# EAGLE library part 6N136 (library ic)
高速光耦,1MBd
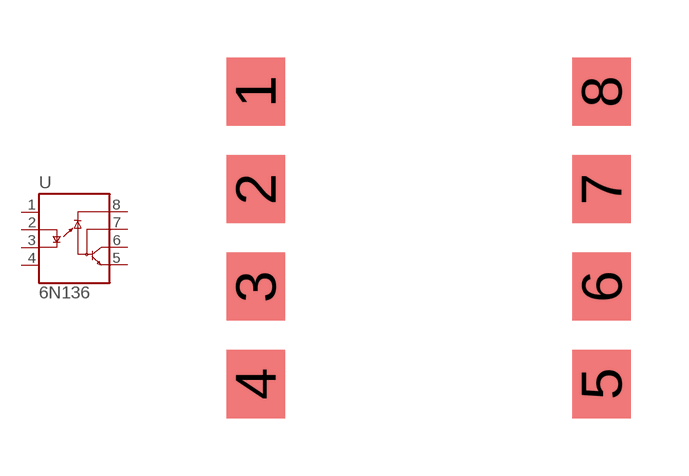
[diagram p4: symbol with the pads of SOP8-900A-2.54A; footprint SOP8-900A-2.54A]

Designator prefix U

## 6N136  [SOP8-900A-2.54A]
1  NC1
2  A
3  C
4  NC2
5  GND
6  VO
7  VB
8  VCC

## Footprint SOP8-900A-2.54A (pad centres in mm)
smd 1.524 x 1.778: 1 0,0; 2 0,-2.54; 3 0,-5.08; 4 0,-7.62; 5 9.017,-7.62; 6 9.017,-5.08; 7 9.017,-2.54; 8 9.017,0